# EAGLE library part 418217270904 (library Wurth_Elektronik_Electromechanic_Switch_rev15d)
WS-RA 2.54 mm right angled compact THT Dip Switch with raised actuator, 4 Pole
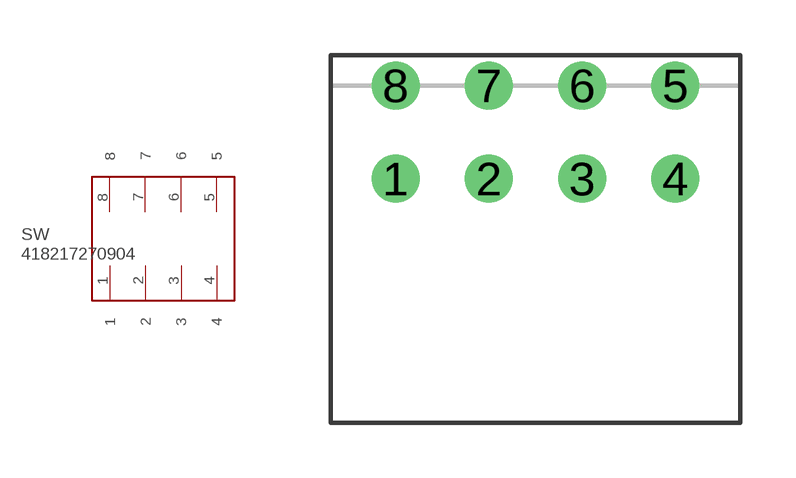
[diagram p76: symbol with the pads of 418217270904; footprint 418217270904]

Designator prefix SW

## 418217270904  [418217270904]
1  1
2  2
3  3
4  4
5  5
6  6
7  7
8  8

## Footprint 418217270904 (pad centres in mm)
WS-RA 2.54 mm right angled compact THT Dip Switch with raised actuator, 4 Pole
drill 0.8: 1 -3.81,-1.27; 2 -1.27,-1.27; 3 1.27,-1.27; 4 3.81,-1.27; 5 3.81,1.27; 6 1.27,1.27; 7 -1.27,1.27; 8 -3.81,1.27